# Altium integrated library BUK9880-55A.IntLib: 1 symbol
Pins are listed as number, name and electrical type; pins without a type are passive.

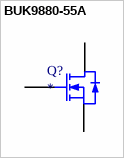
[diagram p0: symbol BUK9880-55A]

## BUK9880-55A
designator Q?
Datasheet: https://assets.nexperia.com/documents/data-sheet/BUK9880-55A.pdf; Package: SOT223
footprint BUK9880-55A
pins: 1 D, 2 G, 3 S